# EAGLE library part LTC3552-1 (library PowerProducts)
LT-Spice library generated with : ltspice.ulp from: D:/Program Files (x86)/LTC/LTspiceIV/lib/sym/PowerProducts/LTC3560*.asy at 07.10.2012 18:19:06
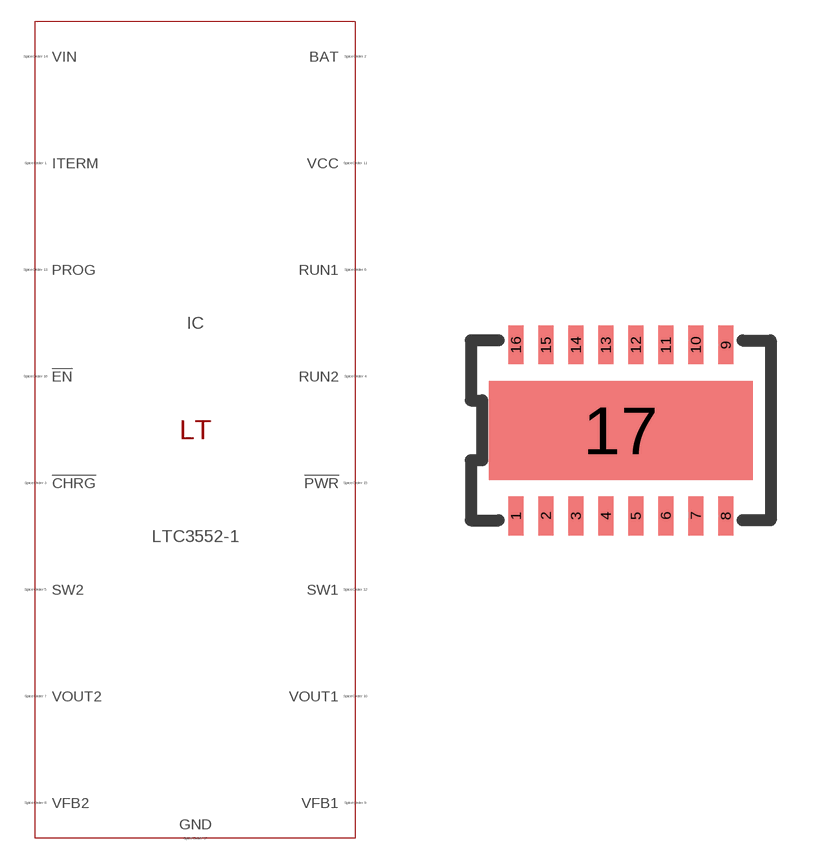
[diagram p247: symbol with the pads of DFN16(DHC); footprint DFN16(DHC)]

Designator prefix IC

## LTC3552-1 (SPICEMODEL: LTC3552-1.sub; SPICEPREFIX: X; VALUE2: LTC3552-1)  [DFN16(DHC)]
1  ITERM  pas
2  BAT  pas
3  !CHRG  pas
4  RUN2  pas
5  SW2  pas
6  RUN1  pas
7  VOUT2  pas
8  VFB2  pas
9  VFB1  pas
10  VOUT1  pas
11  VCC  pas
12  SW1  pas
13  PROG  pas
14  VIN  pas
15  !PWR  pas
16  !EN  pas
17  GND  pas

## Footprint DFN16(DHC) (pad centres in mm)
Package generated from: DFN16(DHC).asc (!PADS-POWERPCB-V5.0-BASIC! DESIGN DATABASE ASCII FILE 1.0) with :import-pads-powerpcb-v5.ulp Version 1.0.1 at 04.10.2012 14:11:17
smd 0.375 x 0.975: 1 -2.625,-2.138; 2 -1.875,-2.138; 3 -1.125,-2.138; 4 -0.375,-2.138; 5 0.375,-2.138; 6 1.125,-2.138; 7 1.875,-2.138; 8 2.625,-2.138; 9 2.625,2.138; 10 1.875,2.138; 11 1.125,2.138; 12 0.375,2.138; 13 -0.375,2.138; 14 -1.125,2.138; 15 -1.875,2.138; 16 -2.625,2.138
smd 6.6 x 2.475: 17 0,0